# Altium footprint library XFGM-6.PcbLib: 1 footprints
Each footprint in its own frame and in the unit in brackets; x right, y up, seen from the top. Pads: shape width x height; smd on the part's side, far side on the other; paste and mask are expansions set on the pad; w line width, h text height; cw(c..) or ccw(c..) is an arc to the next point about the centre after c.
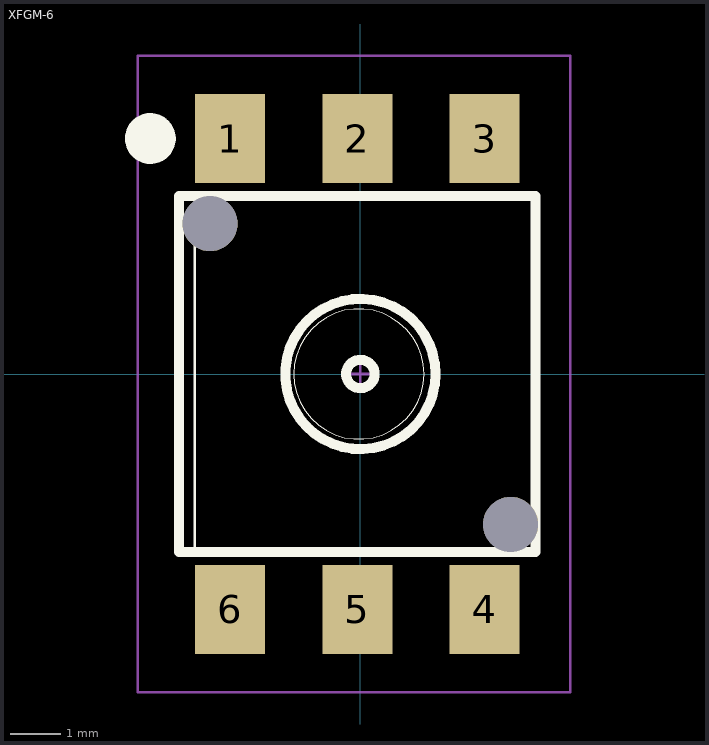
[diagram p0: the footprint, top view; thin cyan lines are the x and y axes]

## XFGM-6 [mil] "Pre-amplified, 5V Excitatio, Gauge"
height 374.02
pads (8):
  rect 55x70 smd: 1(-102.36,185) 2(-2.36,185) 3(97.64,185) 4(97.64,-185) 5(-2.36,-185) 6(-102.36,-185)
  round 43.31 hole 43.31 unplated: ""(-118.11,118.11) ""(118.11,-118.11)
Top Overlay:
  circle w20: c-165,185 r10
  circle w7.87: c0,0 r11.18
  circle w7.87: c0,0 r59.06
  circle w0.05: c-1.18,0 r51.18
  lines w1.97: -130,-140 -130,140
  lines w7.87: -142.36,-140 137.64,-140 137.64,140 -142.36,140 -142.36,-140
Mechanical 15:
  lines w1.97: -10,0 10,0 ; 0,-10 0,10 ; -175,-250 -175,250 165,250 165,-250 -175,-250
3D body: height 3, standoff 0, extent -142.34,-139.98 -130.02,139.98
3D body: height 374.02, standoff 0, extent -59.32,-59.32 59.32,59.32
3D body: height 3.5, standoff 0, extent -129.98,-139.98 137.62,139.98